# Altium schematic symbol library RadioRepeater.SchLib: 18 symbols
Pins are listed as number, name and electrical type; pins without a type are passive.

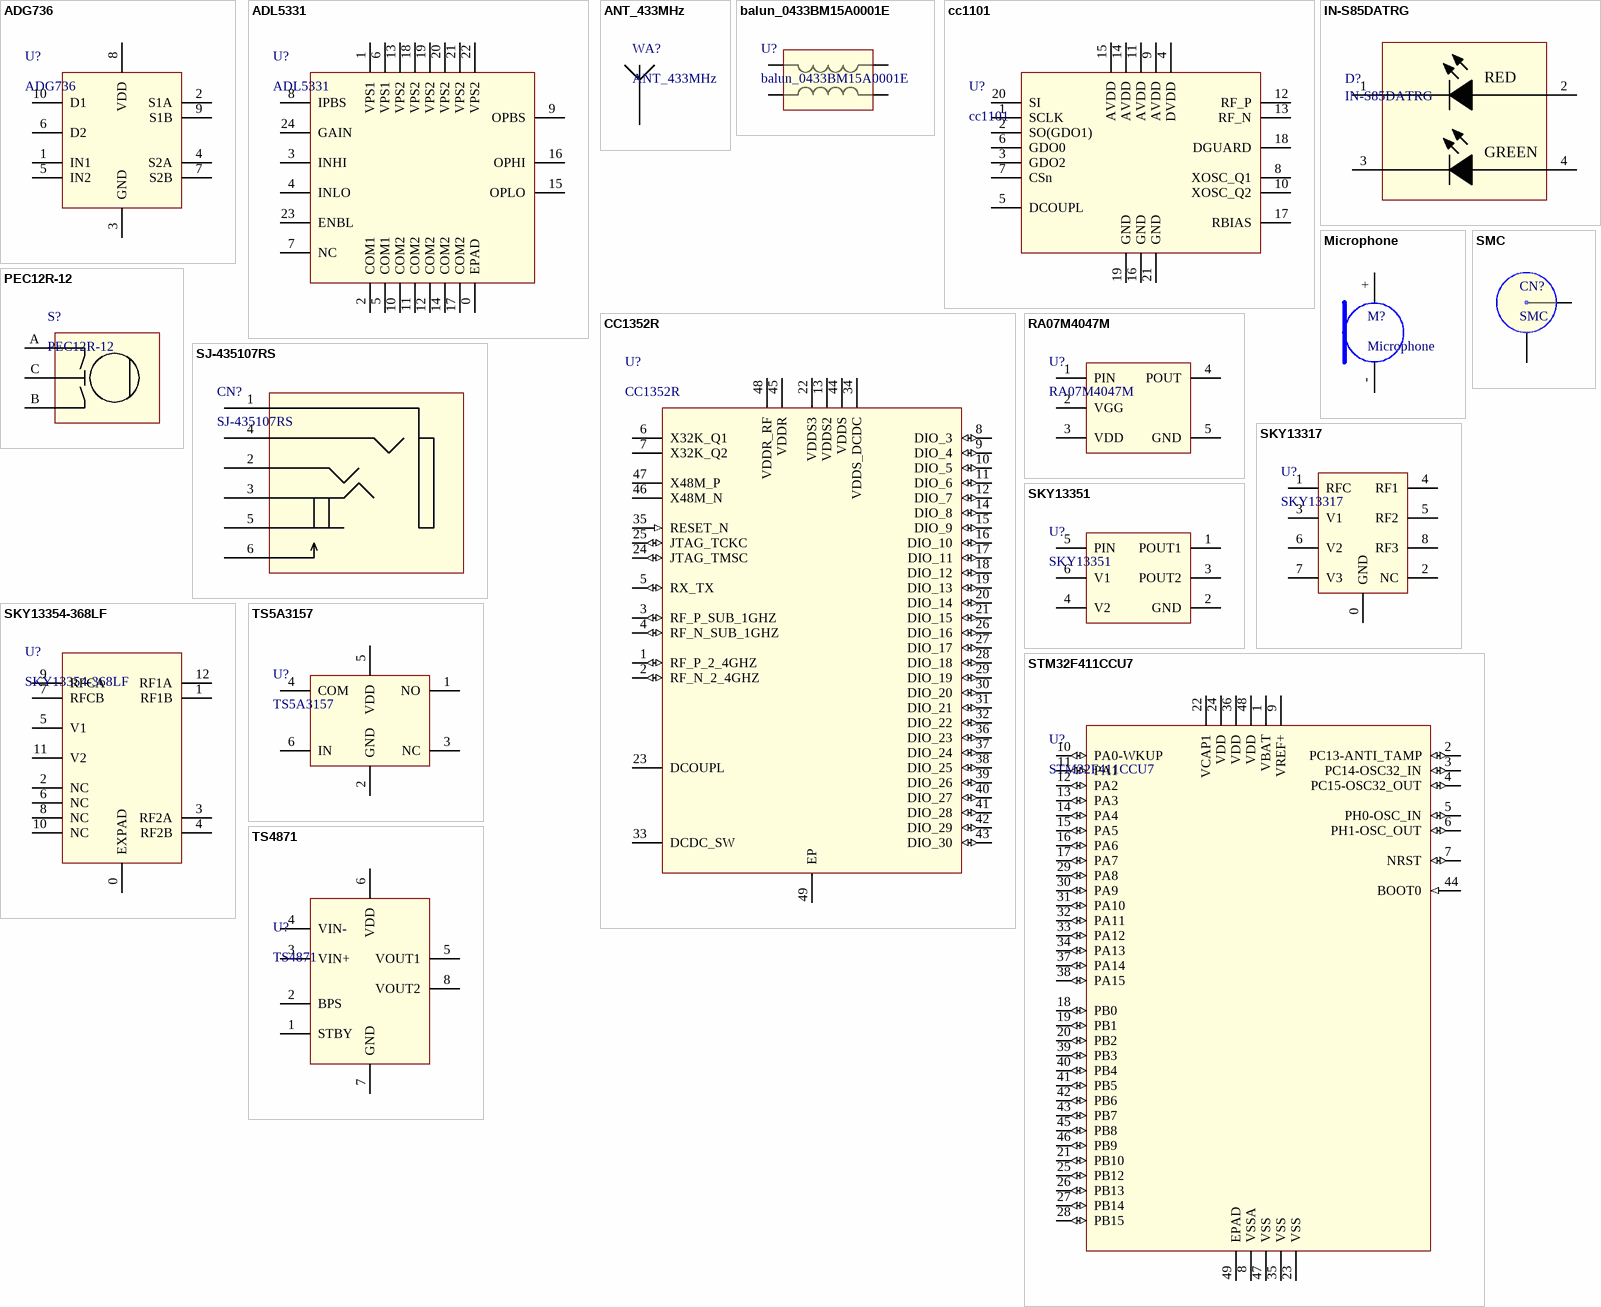
[diagram p0: symbols ADG736 to TS4871]

## ADG736
designator U?
pins: 1 IN1, 2 S1A, 3 GND, 4 S2A, 5 IN2, 6 D2, 7 S2B, 8 VDD, 9 S1B, 10 D1

## ADL5331
designator U?
pins: 0 EPAD, 1 VPS1, 2 COM1, 3 INHI, 4 INLO, 5 COM1, 6 VPS1, 7 NC, 8 IPBS, 9 OPBS, 10 COM2, 11 COM2, 12 COM2, 13 VPS2, 14 COM2, 15 OPLO, 16 OPHI, 17 COM2, 18 VPS2, 19 VPS2, 20 VPS2, 21 VPS2, 22 VPS2, 23 ENBL, 24 GAIN

## ANT_433MHz
designator WA?
pins: 1

## balun_0433BM15A0001E
designator U?
pins: 1 UP, 2 GND, 3 BP, 4 BP

## cc1101
designator U?
pins: 1 SCLK, 2 SO(GDO1), 3 GDO2, 4 DVDD, 5 DCOUPL, 6 GDO0, 7 CSn, 8 XOSC_Q1, 9 AVDD, 10 XOSC_Q2, 11 AVDD, 12 RF_P, 13 RF_N, 14 AVDD, 15 AVDD, 16 GND, 17 RBIAS, 18 DGUARD, 19 GND, 20 SI, 21 GND

## CC1352R
designator U?
Mfr_Name: Texas Instruments; Manufacturer_Part_Number: CC1352P1F3RGZT; Type: DEV; RefDes: RefDes; Copyright: Copyright (C) 2022 Ultra Librarian. All rights reserved.; Digi-Key_Part_Number_1: 296-53598-1-ND; Digi-Key_Part_Number_2: 296-53598-2-ND; Digi-Key_Part_Number_3: 296-53598-6-ND
footprint RGZ0048A
pins: 1 RF_P_2_4GHZ (io), 2 RF_N_2_4GHZ (io), 3 RF_P_SUB_1GHZ (io), 4 RF_N_SUB_1GHZ (io), 5 RX_TX (io), 6 X32K_Q1, 7 X32K_Q2, 8 DIO_3 (io), 9 DIO_4 (io), 10 DIO_5 (io), 11 DIO_6 (io), 12 DIO_7 (io), 13 VDDS2 (power), 14 DIO_8 (io), 15 DIO_9 (io), 16 DIO_10 (io), 17 DIO_11 (io), 18 DIO_12 (io), 19 DIO_13 (io), 20 DIO_14 (io), 21 DIO_15 (io), 22 VDDS3 (power), 23 DCOUPL (power), 24 JTAG_TMSC (io), 25 JTAG_TCKC (io), 26 DIO_16 (io), 27 DIO_17 (io), 28 DIO_18 (io), 29 DIO_19 (io), 30 DIO_20 (io), 31 DIO_21 (io), 32 DIO_22 (io), 33 DCDC_SW (power), 34 VDDS_DCDC (power), 35 RESET_N (in), 36 DIO_23 (io), 37 DIO_24 (io), 38 DIO_25 (io), 39 DIO_26 (io), 40 DIO_27 (io), 41 DIO_28 (io), 42 DIO_29 (io), 43 DIO_30 (io), 44 VDDS (power), 45 VDDR (power), 46 X48M_N, 47 X48M_P, 48 VDDR_RF (power), 49 EP (power)

## IN-S85DATRG
designator D?
SMD LED 0805 Red, Green; Manufacturer: Inolux; Description 1: Led Green/red Clear 0805 SMD; Color: Green,Red; Lens Color: Clear; Lens Style: Flat; Luminous Intensity: 140mcd; Forward Voltage: 2.2V; Test Current: 20mA; Viewing Angle: 120°; Dominant Wavelength: 522nm; Lens Size: 1.25mm; Supplier 1: Digi-Key; Supplier Part Number 1: 1830-1085-1-ND; Manufacturer Part Number: IN-S85DATRG; RoHS: No; Stock 1: 72542; Pricing 1: 1=0,43000, 10=0,28100, 100=0,18760, 500=0,12974, 1000=0,10812 (USD); Mount: Surface Mount; Case/Package: 0805; Packaging: Tape and Reel; Lens Transparency: Clear; Length: 2mm; Width: 1.25mm; Height: 1.1mm; ComponentLink1URL: http://www.inolux-corp.com/datasheet/SMDLED/Bi-Color%20Top%20View/IN-S85DATRG_V1.0.pdf?src-supplier=Digi-Key; ComponentLink1Description: http://www.inolux-corp.com/datasheet/SMDLED/Bi-Color%20Top%20View/IN-S85DATRG_V1.0.pdf?src-supplier=Digi-Key
footprint INS128DATRG
pins: 1 C_R, 2 A_R, 3 C_G, 4 A_G
text: RED; GREEN

## Microphone
designator M?
pins: + 0, - 1

## PEC12R-12
designator S?
pins: A, B, C

## RA07M4047M
designator U?
pins: 1 PIN, 2 VGG, 3 VDD, 4 POUT, 5 GND

## SJ-435107RS
designator CN?
pins: 1, 2, 3, 4, 5, 6

## SKY13317
designator U?
pins: 0 GND, 1 RFC, 2 NC, 3 V1, 4 RF1, 5 RF2, 6 V2, 7 V3, 8 RF3

## SKY13351
designator U?
pins: 1 POUT1, 2 GND, 3 POUT2, 4 V2, 5 PIN, 6 V1

## SKY13354-368LF
designator U?
pins: 0 EXPAD, 1 RF1B, 2 NC, 3 RF2A, 4 RF2B, 5 V1, 6 NC, 7 RFCB, 8 NC, 9 RFCA, 10 NC, 11 V2, 12 RF1A

## SMC
designator CN?
pins: 14, 14

## STM32F411CCU7
designator U?
pins: 1 VBAT (power), 2 PC13-ANTI_TAMP (io), 3 PC14-OSC32_IN (io), 4 PC15-OSC32_OUT (io), 5 PH0-OSC_IN (io), 6 PH1-OSC_OUT (io), 7 NRST (io), 8 VSSA (power), 9 VREF+ (power), 10 PA0-WKUP (io), 11 PA1 (io), 12 PA2 (io), 13 PA3 (io), 14 PA4 (io), 15 PA5 (io), 16 PA6 (io), 17 PA7 (io), 18 PB0 (io), 19 PB1 (io), 20 PB2 (io), 21 PB10 (io), 22 VCAP1 (power), 23 VSS (power), 24 VDD (power), 25 PB12 (io), 26 PB13 (io), 27 PB14 (io), 28 PB15 (io), 29 PA8 (io), 30 PA9 (io), 31 PA10 (io), 32 PA11 (io), 33 PA12 (io), 34 PA13 (io), 35 VSS (power), 36 VDD (power), 37 PA14 (io), 38 PA15 (io), 39 PB3 (io), 40 PB4 (io), 41 PB5 (io), 42 PB6 (io), 43 PB7 (io), 44 BOOT0 (in), 45 PB8 (io), 46 PB9 (io), 47 VSS (power), 48 VDD (power), 49 EPAD

## TS5A3157
designator U?
pins: 1 NO, 2 GND, 3 NC, 4 COM, 5 VDD, 6 IN

## TS4871
designator U?
pins: 1 STBY, 2 BPS, 3 VIN+, 4 VIN-, 5 VOUT1, 6 VDD, 7 GND, 8 VOUT2